# EAGLE library part SN74HC373 (library jack_libs)
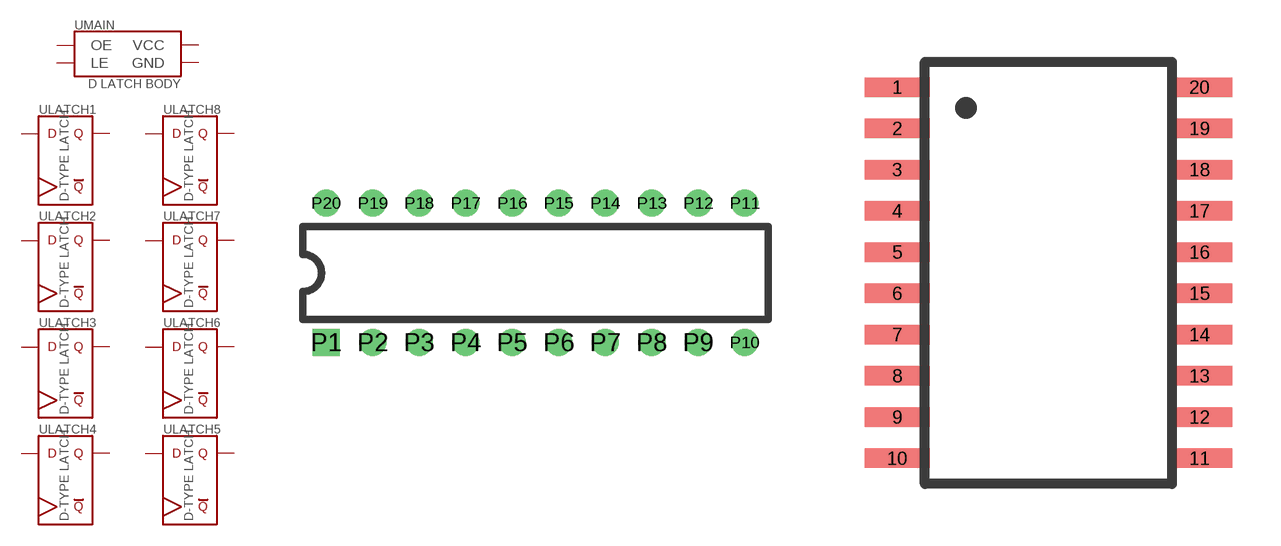
[diagram p5: symbol with the pads of DIP-20; footprints DIP-20, SOIC20]

Designator prefix U; gates MAIN=SN74HC373N LATCH1=D-TYPE_LATCH_DQ-ONLY LATCH2=D-TYPE_LATCH_DQ-ONLY LATCH3=D-TYPE_LATCH_DQ-ONLY LATCH4=D-TYPE_LATCH_DQ-ONLY LATCH8=D-TYPE_LATCH_DQ-ONLY LATCH7=D-TYPE_LATCH_DQ-ONLY LATCH6=D-TYPE_LATCH_DQ-ONLY LATCH5=D-TYPE_LATCH_DQ-ONLY

## SN74HC373N  [DIP-20]
P1  MAIN:OE
P2  LATCH1:Q
P3  LATCH1:D
P4  LATCH2:D
P5  LATCH2:Q
P6  LATCH3:Q
P7  LATCH3:D
P8  LATCH4:D
P9  LATCH4:Q
P10  MAIN:GND
P11  MAIN:LE
P12  LATCH5:Q
P13  LATCH5:D
P14  LATCH6:D
P15  LATCH6:Q
P16  LATCH7:Q
P17  LATCH7:D
P18  LATCH8:D
P19  LATCH8:Q
P20  MAIN:VCC

## SN74HC373DW  [SOIC20]
1  MAIN:OE
2  LATCH1:Q
3  LATCH1:D
4  LATCH2:D
5  LATCH2:Q
6  LATCH3:Q
7  LATCH3:D
8  LATCH4:D
9  LATCH4:Q
10  MAIN:GND
11  MAIN:LE
12  LATCH5:Q
13  LATCH5:D
14  LATCH6:D
15  LATCH6:Q
16  LATCH7:Q
17  LATCH7:D
18  LATCH8:D
19  LATCH8:Q
20  MAIN:VCC

## Footprint DIP-20 (pad centres in mm)
drill 0.965 square: P1 -11.43,-3.81
drill 0.965: P2 -8.89,-3.81; P3 -6.35,-3.81; P4 -3.81,-3.81; P5 -1.27,-3.81; P6 1.27,-3.81; P7 3.81,-3.81; P8 6.35,-3.81; P9 8.89,-3.81; P10 11.43,-3.81; P11 11.43,3.81; P12 8.89,3.81; P13 6.35,3.81; P14 3.81,3.81; P15 1.27,3.81; P16 -1.27,3.81; P17 -3.81,3.81; P18 -6.35,3.81; P19 -8.89,3.81; P20 -11.43,3.81

## Footprint SOIC20 (pad centres in mm)
smd 2 x 0.6: 1 -4.65,5.715; 2 -4.65,4.445; 3 -4.65,3.175; 4 -4.65,1.905; 5 -4.65,0.635; 6 -4.65,-0.635; 7 -4.65,-1.905; 8 -4.65,-3.175; 9 -4.65,-4.445; 10 -4.65,-5.715; 11 4.65,-5.715; 12 4.65,-4.445; 13 4.65,-3.175; 14 4.65,-1.905; 15 4.65,-0.635; 16 4.65,0.635; 17 4.65,1.905; 18 4.65,3.175; 19 4.65,4.445; 20 4.65,5.715